# Altium footprint library EWM104-BT5125(AD).PcbLib: 1 footprints
Each footprint in its own frame and in the unit in brackets; x right, y up, seen from the top. Pads: shape width x height; smd on the part's side, far side on the other; paste and mask are expansions set on the pad; w line width, h text height; cw(c..) or ccw(c..) is an arc to the next point about the centre after c.
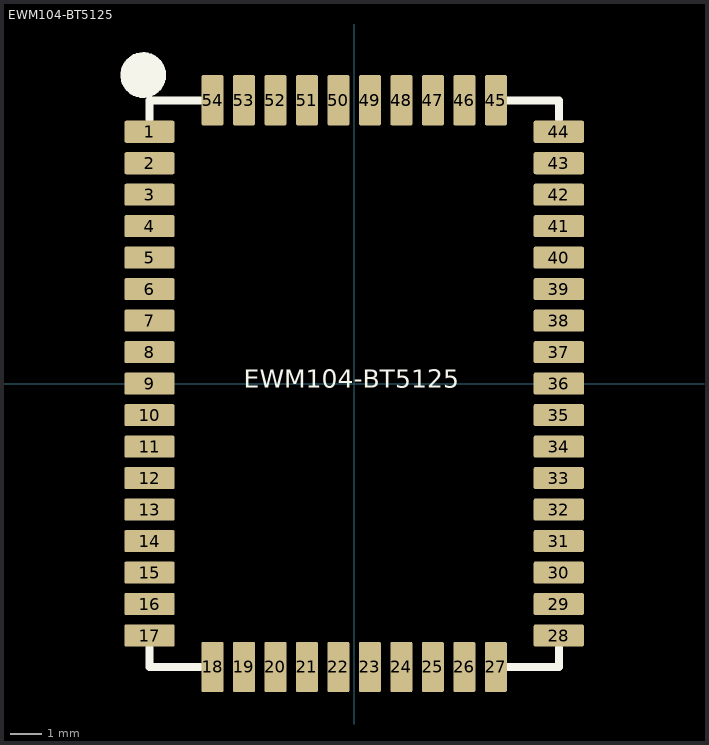
[diagram p0: the footprint, top view; thin cyan lines are the x and y axes]

## EWM104-BT5125 [mm]
pads (54):
  rrect16% 1.6x0.7 smd mask+0.01: 1(-6.5,8) 2(-6.5,7) 3(-6.5,6) 4(-6.5,5) 5(-6.5,4) 6(-6.5,3) 7(-6.5,2) 8(-6.5,1) 9(-6.5,0) 10(-6.5,-1) 11(-6.5,-2) 12(-6.5,-3) 13(-6.5,-4) 14(-6.5,-5) 15(-6.5,-6) 16(-6.5,-7) 17(-6.5,-8) 28(6.5,-8) 29(6.5,-7) 30(6.5,-6) 31(6.5,-5) 32(6.5,-4) 33(6.5,-3) 34(6.5,-2) 35(6.5,-1) 36(6.5,0) 37(6.5,1) 38(6.5,2) 39(6.5,3) 40(6.5,4) 41(6.5,5) 42(6.5,6) 43(6.5,7) 44(6.5,8)
  rrect16% 0.7x1.6 smd mask+0.01: 18(-4.5,-9) 19(-3.5,-9) 20(-2.5,-9) 21(-1.5,-9) 22(-0.5,-9) 23(0.5,-9) 24(1.5,-9) 25(2.5,-9) 26(3.5,-9) 27(4.5,-9) 45(4.5,9) 46(3.5,9) 47(2.5,9) 48(1.5,9) 49(0.5,9) 50(-0.5,9) 51(-1.5,9) 52(-2.5,9) 53(-3.5,9) 54(-4.5,9)
Top Overlay:
  circle w0.254: c-6.7,9.8 r0.6
  region: -6.466,10.365 -6.267,10.233 -6.135,10.034 -6.088,9.8 -6.135,9.566 -6.267,9.367 -6.466,9.235 -6.7,9.188 -6.934,9.235 -7.133,9.367 -7.265,9.566 -7.312,9.8 -7.265,10.034 -7.133,10.233 -6.934,10.365 -6.7,10.412
  lines w0.254: -6.5,-8.4 -6.5,-9 -4.9,-9 ; -6.5,8.4 -6.5,9 -4.9,9 ; 4.9,-9 6.5,-9 6.5,-8.4 ; 4.9,9 6.5,9 6.5,8.4
  text "EWM104-BT5125" at -3.501,-0.316 h1